# EAGLE library part PMGD400UN (library semis)
Dual signal-level N-MOSFET
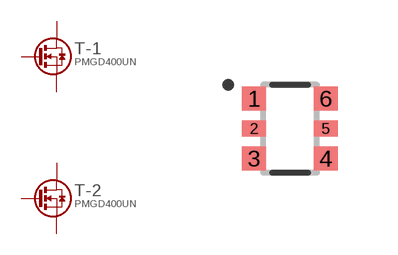
[diagram p0: symbol with the pads of SOT363; footprint SOT363]

Designator prefix T; gates -1=MOSFET-N -2=MOSFET-N

## PMGD400UN  [SOT363]
1  -1:S  pas
2  -1:G  pas
3  -2:D  pas
4  -2:S  pas
5  -2:G  pas
6  -1:D  pas

## Footprint SOT363 (pad centres in mm)
6-pin surface-mount package, AKA SC-88 Based on NXP Packages - page 9, SOT363 <http://www.nxp.com/documents/other/Package_x-ref_packing_outlines.pdf>
smd 0.6 x 0.6: 1 -0.9,0.75; 3 -0.9,-0.75; 4 0.9,-0.75; 6 0.9,0.75
smd 0.6 x 0.4: 2 -0.9,0; 5 0.9,0